# EAGLE library part PIC18F57Q84-I_PT (library PIC18F57Q84-I_PT)
8-bit Microcontrollers - MCU Source: Datasheet <https://ww1.microchip.com/downloads/en/DeviceDoc/PIC18F27-47-57Q84-Data-Sheet-DS40002213C.pdf>
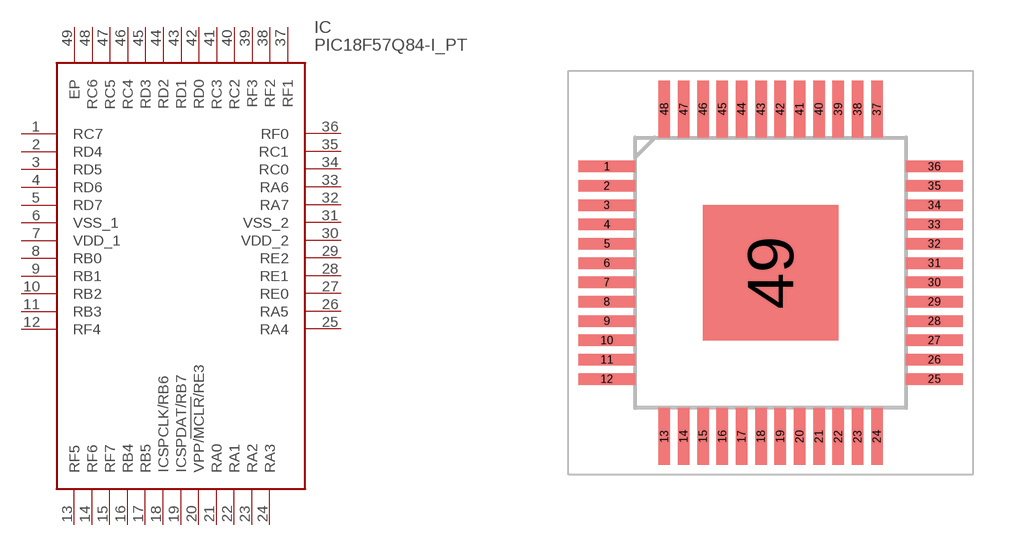
[diagram p0: symbol with the pads of QFP50P900X900X120-49N; footprint QFP50P900X900X120-49N]

Designator prefix IC

## PIC18F57Q84-I_PT (Description: 8-bit Microcontrollers - MCU; Height: 1.2mm; Manufacturer_Name: Microchip; Manufacturer_Part_Number: PIC18F57Q84-I/PT; Mouser_Part_Number: 579-PIC18F57Q84-I/PT; Mouser_Price-Stock: https://www.mouser.co.uk/ProductDetail/Microchip-Technology/PIC18F57Q84-I-PT?qs=7MVldsJ5UayIDNqU9mUkng%3D%3D)  [QFP50P900X900X120-49N]
1  RC7
2  RD4
3  RD5
4  RD6
5  RD7
6  VSS_1
7  VDD_1
8  RB0
9  RB1
10  RB2
11  RB3
12  RF4
13  RF5
14  RF6
15  RF7
16  RB4
17  RB5
18  ICSPCLK/RB6
19  ICSPDAT/RB7
20  VPP/!MCLR!/RE3
21  RA0
22  RA1
23  RA2
24  RA3
25  RA4
26  RA5
27  RE0
28  RE1
29  RE2
30  VDD_2
31  VSS_2
32  RA7
33  RA6
34  RC0
35  RC1
36  RF0
37  RF1
38  RF2
39  RF3
40  RC2
41  RC3
42  RD0
43  RD1
44  RD2
45  RD3
46  RC4
47  RC5
48  RC6
49  EP

## Footprint QFP50P900X900X120-49N (pad centres in mm)
48-Lead Thin Quad Flatpack (PT) - 7x7x1.0
smd 1.475 x 0.3: 1 -4.238,2.75; 2 -4.238,2.25; 3 -4.238,1.75; 4 -4.238,1.25; 5 -4.238,0.75; 6 -4.238,0.25; 7 -4.238,-0.25; 8 -4.238,-0.75; 9 -4.238,-1.25; 10 -4.238,-1.75; 11 -4.238,-2.25; 12 -4.238,-2.75; 25 4.238,-2.75; 26 4.238,-2.25; 27 4.238,-1.75; 28 4.238,-1.25; 29 4.238,-0.75; 30 4.238,-0.25; 31 4.238,0.25; 32 4.238,0.75; 33 4.238,1.25; 34 4.238,1.75; 35 4.238,2.25; 36 4.238,2.75
smd 0.3 x 1.475: 13 -2.75,-4.238; 14 -2.25,-4.238; 15 -1.75,-4.238; 16 -1.25,-4.238; 17 -0.75,-4.238; 18 -0.25,-4.238; 19 0.25,-4.238; 20 0.75,-4.238; 21 1.25,-4.238; 22 1.75,-4.238; 23 2.25,-4.238; 24 2.75,-4.238; 37 2.75,4.238; 38 2.25,4.238; 39 1.75,4.238; 40 1.25,4.238; 41 0.75,4.238; 42 0.25,4.238; 43 -0.25,4.238; 44 -0.75,4.238; 45 -1.25,4.238; 46 -1.75,4.238; 47 -2.25,4.238; 48 -2.75,4.238
smd 3.5 x 3.5: 49 0,0